# Altium footprint library DPAK.PcbLib: 2 footprints
Each footprint in its own frame and in the unit in brackets; x right, y up, seen from the top. Pads: shape width x height; smd on the part's side, far side on the other; paste and mask are expansions set on the pad; w line width, h text height; cw(c..) or ccw(c..) is an arc to the next point about the centre after c.
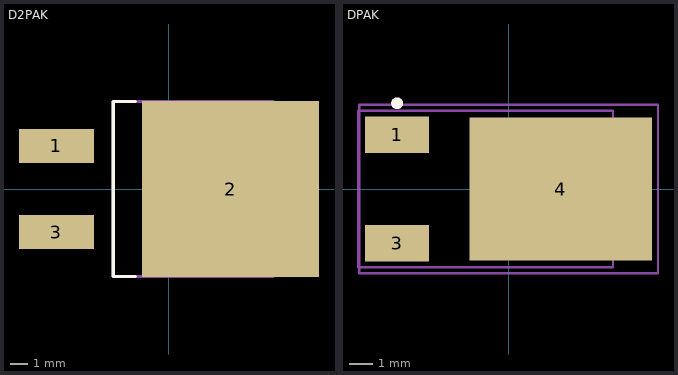
[diagram p0: the footprints below, top view; thin cyan lines are the x and y axes]

## D2PAK [mm] "D2-PAK, 3-Pads, Body 9,4x10,3mm (max), IPC Low Density"
height 2.38
pads (3):
  rect 4.4x2 smd: 1(-6.6,2.54) 3(-6.6,-2.54)
  rect 10.4x10.35 smd: 2(3.65,0)
Top Overlay:
  lines w0.2: -1.95,-5.15 -3.25,-5.15 -3.25,5.15 -1.95,5.15
Mechanical 13:
  lines w0.2: -3.25,-5.15 -3.25,5.15 6.15,5.15 6.15,-5.15 -3.25,-5.15
  text ".Designator" at 0.762,6.223 h1.5
3D body: height 4.6, standoff -0.01, extent -7.798,-5.193 8.052,5.207

## DPAK [mm] "D-PAK, 3-Pads, Body 6,2x6,6mm (max), IPC Medium Density"
height 2.4
pads (3):
  rect 2.7x1.55 smd: 1(-4.7,2.29) 3(-4.7,-2.29)
  rect 7.7x6.05 smd: 4(2.2,0)
Top Overlay:
  circle w0.25: c-4.7,3.615 r0.125
Mechanical 13:
  lines w0.1: -6.35,-3.3 -6.35,3.3 4.4,3.3 4.4,-3.3 -6.35,-3.3
  text ".Designator" at -2.921,4.064 h2.5
Mechanical 15:
  lines w0.1: -0.5,0 0.5,0 ; 0,-0.5 0,0.5 ; -6.3,-3.55 -6.3,3.55 6.3,3.55 6.3,-3.55 -6.3,-3.55
3D body: height 2.4, standoff 0, extent -5.588,-3.3 4.512,3.3